# Altium schematic symbol library InterfaceICs.SchLib: 2 symbols
Pins are listed as number, name and electrical type; pins without a type are passive.

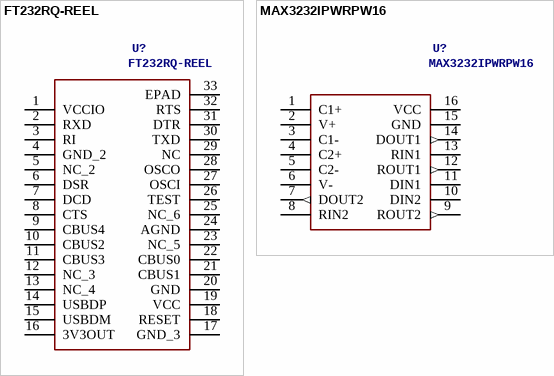
[diagram p0: symbols FT232RQ-REEL to MAX3232IPWRPW16]

## FT232RQ-REEL
designator U?
FT232 FTDI USB_to_UART; SymbolName_1: FT232RQ-REEL; SuppliersPartNumber: C14090; PartNumber: FT232RQ-REEL; Value: *; Manufacturer: FTDI; SupplierNumber: 768-1008-1-ND; Package: QFN-32 (Exposed Pad) (5x5); Link: https://www.digikey.ca/en/products/detail/ftdi-future-technology-devices-international-ltd/FT232RQ-REEL/1836386?s=N4IgTCBcDaIGIBUwGYwCUCKBaNBRXAMiALoC%2BQA
footprint QFN-32 (Exposed Pad) (5x5)
pins: 1 VCCIO, 2 RXD, 3 RI, 4 GND_2, 5 NC_2, 6 DSR, 7 DCD, 8 CTS, 9 CBUS4, 10 CBUS2, 11 CBUS3, 12 NC_3, 13 NC_4, 14 USBDP, 15 USBDM, 16 3V3OUT, 17 GND_3, 18 RESET, 19 VCC, 20 GND, 21 CBUS1, 22 CBUS0, 23 NC_5, 24 AGND, 25 NC_6, 26 TEST, 27 OSCI, 28 OSCO, 29 NC, 30 TXD, 31 DTR, 32 RTS, 33 EPAD

## MAX3232IPWRPW16
designator U?
Transceiver 3.3~5V 250Kbps; Manufacturer: Texas Instruments; Value: 3V~5.5V transceiver; SupplierNumber: 296-13100-2-ND; PartNumber: MAX3232IPWR; SuppliersPartNumber: C113205; Link: https://jlcpcb.com/partdetail/TexasInstruments-MAX3232IPWR/C113205; Package: TSSOP-16
footprint INTERFACE_TSSOP-16
pins: 1 C1+, 2 V+ (power), 3 C1-, 4 C2+, 5 C2-, 6 V- (power), 7 DOUT2 (out), 8 RIN2, 9 ROUT2 (out), 10 DIN2, 11 DIN1, 12 ROUT1 (out), 13 RIN1, 14 DOUT1 (out), 15 GND (power), 16 VCC (power)